# Altium schematic symbol library PowerManagement.SchLib: 15 symbols
Pins are listed as number, name and electrical type; pins without a type are passive.

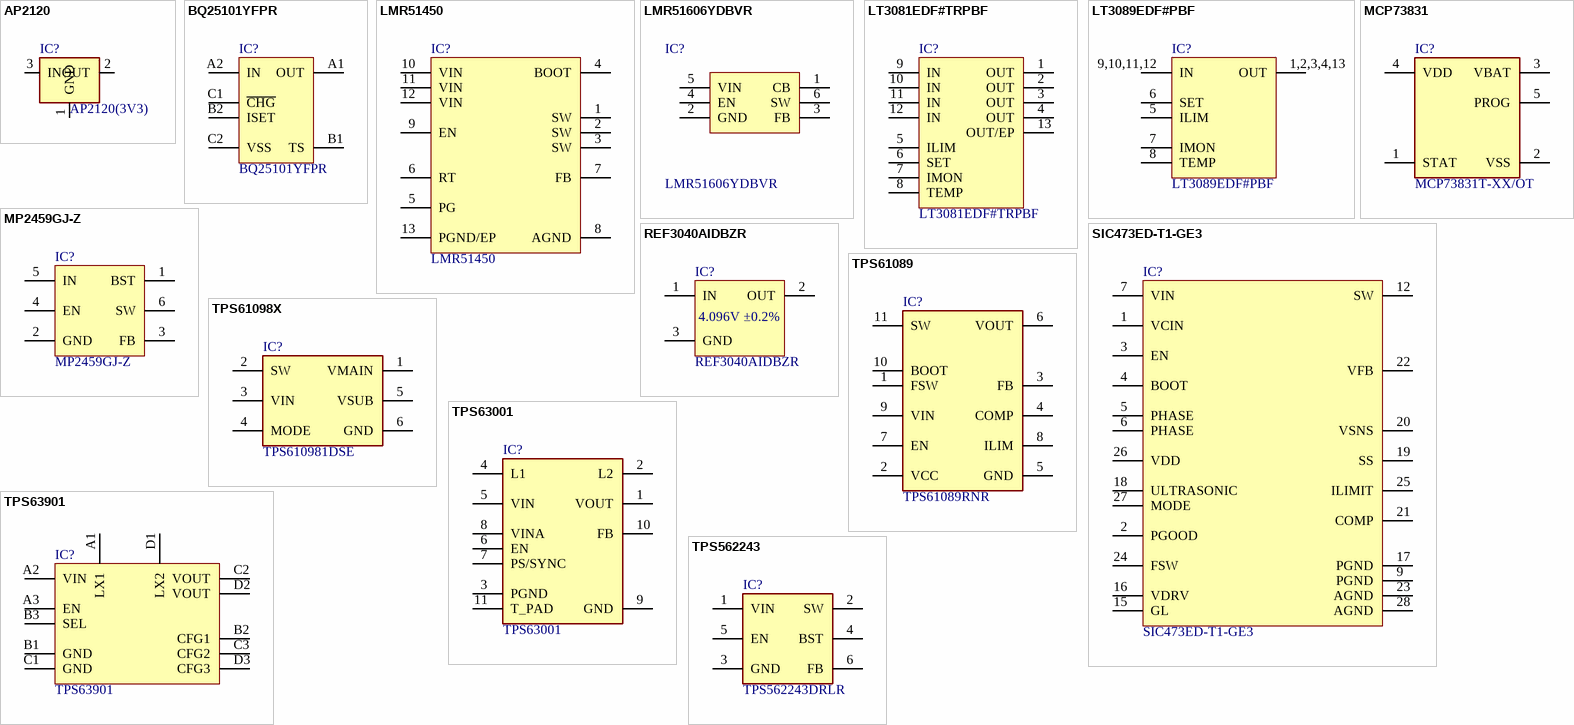
[diagram p0: symbols AP2120 to TPS562243]

## AP2120
designator IC?, comment AP2120(3V3)
pins: 1 GND, 2 OUT, 3 IN

## BQ25101YFPR
designator IC?
IC für Ladegerät Lithium-Ionen/Polymer 6-DSBGA
footprint BGA6C40P2X3_88X158X50(BQ2510x) (BGA, 6-Leads, Body 0.88x1.58mmx0.50mm, Pitch 0.40mm)
pins: A1 OUT, A2 IN, B1 TS, B2 ISET, C1 ~{CHG}, C2 VSS

## LMR51450
designator IC?
footprint WSON12(LMR514X0) (SON, 12-Leads, Body 3.00x3.00mm, Pitch 0.50mm, Thermal Pad 2.50x1.30mm, IPC Medium Density)
pins: 1 SW, 2 SW, 3 SW, 4 BOOT, 5 PG, 6 RT, 7 FB, 8 AGND, 9 EN, 10 VIN, 11 VIN, 12 VIN, 13 PGND/EP

## LMR51606YDBVR
designator IC?
footprint SOT95P245X120-6N (SOT23, 6-Leads, Body 2.90x2.45mm, Pitch 0.95mm, IPC Medium Density)
pins: 1 CB, 2 GND, 3 FB, 4 EN, 5 VIN, 6 SW

## LT3081EDF#TRPBF
designator IC?
footprint WSON12_4X4(LT3081) (SON, 12-Leads, Body 4.00x4.00mm, Pitch 0.50mm, Thermal Pad 3.38x2.49mm, IPC Medium Density)
pins: 1 OUT, 2 OUT, 3 OUT, 4 OUT, 5 ILIM, 6 SET, 7 IMON, 8 TEMP, 9 IN, 10 IN, 11 IN, 12 IN, 13 OUT/EP

## LT3089EDF#PBF
designator IC?
PMIC - Spannungsregler - Linear Positiv Einstellbar 1 Ausgang 800mA 12-DFN (4x4)
footprint WSON12_4X4(LT3081) (SON, 12-Leads, Body 4.00x4.00mm, Pitch 0.50mm, Thermal Pad 3.38x2.49mm, IPC Medium Density)
pins: 1,2,3,4,13 OUT, 5 ILIM, 6 SET, 7 IMON, 8 TEMP, 9,10,11,12 IN

## MCP73831
designator IC?, comment MCP73831T-XX/OT
footprint SOT23-5(MCP73831) (SOT23, 5-Leads, Body 2.90x2.80mm, Pitch 0.95mm, IPC Medium Density)
pins: 1 STAT, 2 VSS, 3 VBAT, 4 VDD, 5 PROG

## MP2459GJ-Z
designator IC?
Buck Schaltregler IC Positiv Einstellbar 0,81V 1 Ausgang 500mA SOT-23-6 dünn, TSOT-23-6
footprint SOT95P245X120-6N (SOT23, 6-Leads, Body 2.90x2.45mm, Pitch 0.95mm, IPC Medium Density)
pins: 1 BST, 2 GND, 3 FB, 4 EN, 5 IN, 6 SW

## REF3040AIDBZR
designator IC?
Series Voltage Reference IC Fixed 4.096V V ±0.2% 25 mA SOT-23-3
footprint SOT23(IRLM2244T) (SOT23, 3-Leads, Body 2.92x2.37mm, Pitch 0.95mm, IPC Medium Density)
pins: 1 IN, 2 OUT, 3 GND
text: 4.096V ±0.2%

## SIC473ED-T1-GE3
designator IC?
footprint VISCHAY_SiC47X
pins: 1 VCIN, 2 PGOOD, 3 EN, 4 BOOT, 5 PHASE, 6 PHASE, 7 VIN, 9 PGND, 12 SW, 15 GL, 16 VDRV, 17 PGND, 18 ULTRASONIC, 19 SS, 20 VSNS, 21 COMP, 22 VFB, 23 AGND, 24 FSW, 25 ILIMIT, 26 VDD, 27 MODE, 28 AGND

## TPS61089
designator IC?, comment TPS61089RNR
footprint VQFN12_HOTROD(TPS61089) (QFN, 12-Leads, Body 2.50x2.00mm, Pitch 0.70mm/0.50mm, IPC Medium Density)
pins: 1 FSW, 2 VCC, 3 FB, 4 COMP, 5 GND, 6 VOUT, 7 EN, 8 ILIM, 9 VIN, 10 BOOT, 11 SW

## TPS61098X
designator IC?, comment TPS610981DSE
Manufacturer: Texas Instruments; Value: TPS610981DSE; MPN: TPS610981DSE
footprint WSON6(TPS610981) (SON, 6-Leads, Body 1.50x1.50mm, Pitch 0.50mm, IPC Medium Density)
pins: 1 VMAIN, 2 SW, 3 VIN, 4 MODE, 5 VSUB, 6 GND

## TPS63001
designator IC?
footprint VSON10(TPS63001) (SON, 10-Leads, Body 3.00x3.00mm, Pitch 0.50mm, Thermal Pad 2.40x1.49mm, IPC Medium Density)
pins: 1 VOUT, 2 L2, 3 PGND, 4 L1, 5 VIN, 6 EN, 7 PS/SYNC, 8 VINA, 9 GND, 10 FB, 11 T_PAD

## TPS63901
designator IC?
Buck-Boost Schaltregler IC Positiv Programmierbar 1,8V 1 Ausgang 400mA 12-XFBGA, DSBGA
footprint BGA12C35P3X4_115X150X35(TPS63901) (BGA, 12-Leads, Body 1.15x1.50mmx0.35mm, Pitch 0.35mm)
pins: A1 LX1, A2 VIN, A3 EN, B1 GND, B2 CFG1, B3 SEL, C1 GND, C2 VOUT, C3 CFG2, D1 LX2, D2 VOUT, D3 CFG3

## TPS562243
designator IC?, comment TPS562243DRLR
Buck Schaltregler IC Positiv Einstellbar 0,6V 1 Ausgang 2A SOT-563, SOT-666
footprint SOT563(DRV8210) (SOTFL, 6-Leads, Body 1.60x1.60mm, Pitch 0.50mm, IPC Medium Density)
pins: 1 VIN, 2 SW, 3 GND, 4 BST, 5 EN, 6 FB